# EAGLE library part F446RE (library F446RE)
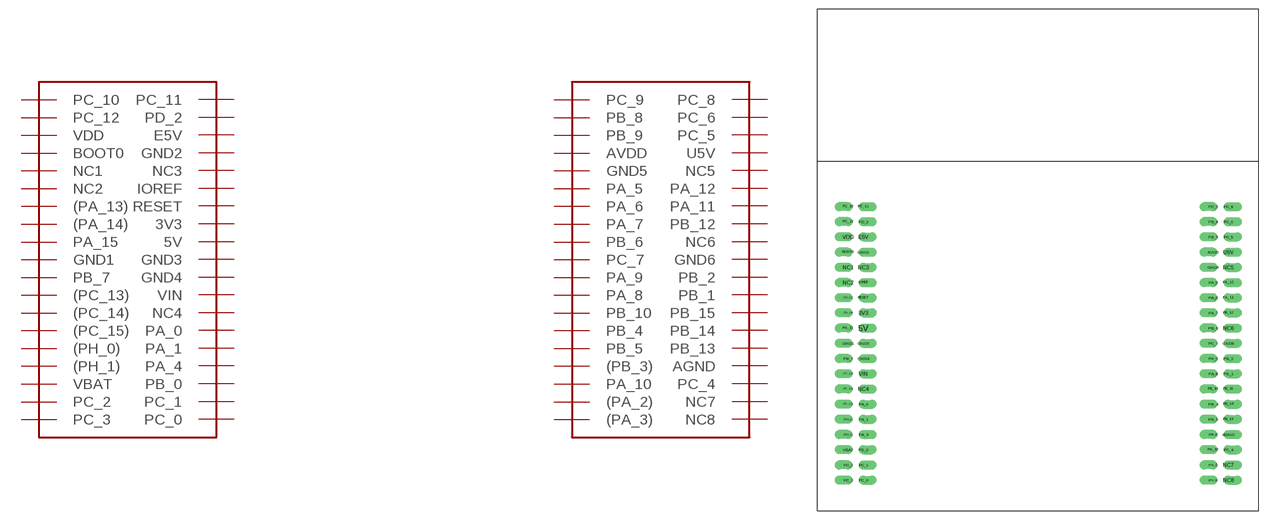
[diagram p0: symbol with the pads of F446RE; footprint F446RE]

Designator prefix U

## F446RE  [F446RE]
3V3  3V3
5V  5V
(PA_2)  (PA_2)
(PA_3)  (PA_3)
(PA_13)  (PA_13)
(PA_14)  (PA_14)
(PB_3)  (PB_3)
(PC_13)  (PC_13)
(PC_14)  (PC_14)
(PC_15)  (PC_15)
(PH_0)  (PH_0)
(PH_1)  (PH_1)
AGND  AGND
AVDD  AVDD
BOOT0  BOOT0
E5V  E5V
GND1  GND1
GND2  GND2
GND3  GND3
GND4  GND4
GND5  GND5
GND6  GND6
IOREF  IOREF
NC1  NC1
NC2  NC2
NC3  NC3
NC4  NC4
NC5  NC5
NC6  NC6
NC7  NC7
NC8  NC8
PA_0  PA_0
PA_1  PA_1
PA_4  PA_4
PA_5  PA_5
PA_6  PA_6
PA_7  PA_7
PA_8  PA_8
PA_9  PA_9
PA_10  PA_10
PA_11  PA_11
PA_12  PA_12
PA_15  PA_15
PB_0  PB_0
PB_1  PB_1
PB_2  PB_2
PB_4  PB_4
PB_5  PB_5
PB_6  PB_6
PB_7  PB_7
PB_8  PB_8
PB_9  PB_9
PB_10  PB_10
PB_12  PB_12
PB_13  PB_13
PB_14  PB_14
PB_15  PB_15
PC_0  PC_0
PC_1  PC_1
PC_2  PC_2
PC_3  PC_3
PC_4  PC_4
PC_5  PC_5
PC_6  PC_6
PC_7  PC_7
PC_8  PC_8
PC_9  PC_9
PC_10  PC_10
PC_11  PC_11
PC_12  PC_12
PD_2  PD_2
RESET  RESET
U5V  U5V
VBAT  VBAT
VDD  VDD
VIN  VIN

## Footprint F446RE (pad centres in mm)
drill 1 offset: 3V3 2.54,27.94; 5V 2.54,25.4; (PA_2) 60.96,2.54; (PA_3) 60.96,0; (PA_13) 0,30.48; (PA_14) 0,27.94; (PB_3) 60.96,7.62; (PC_13) 0,17.78; (PC_14) 0,15.24; (PC_15) 0,12.7; (PH_0) 0,10.16; (PH_1) 0,7.62; AGND 63.5,7.62; AVDD 60.96,38.1; BOOT0 0,38.1; E5V 2.54,40.64; GND1 0,22.86; GND2 2.54,38.1; GND3 2.54,22.86; GND4 2.54,20.32; GND5 60.96,35.56; GND6 63.5,22.86; IOREF 2.54,33.02; NC1 0,35.56; NC2 0,33.02; NC3 2.54,35.56; NC4 2.54,15.24; NC5 63.5,35.56; NC6 63.5,25.4; NC7 63.5,2.54; NC8 63.5,0; PA_0 2.54,12.7; PA_1 2.54,10.16; PA_4 2.54,7.62; PA_5 60.96,33.02; PA_6 60.96,30.48; PA_7 60.96,27.94; PA_8 60.96,17.78; PA_9 60.96,20.32; PA_10 60.96,5.08; PA_11 63.5,30.48; PA_12 63.5,33.02; PA_15 0,25.4; PB_0 2.54,5.08; PB_1 63.5,17.78; PB_2 63.5,20.32; PB_4 60.96,12.7; PB_5 60.96,10.16; PB_6 60.96,25.4; PB_7 0,20.32; PB_8 60.96,43.18; PB_9 60.96,40.64; PB_10 60.96,15.24; PB_12 63.5,27.94; PB_13 63.5,10.16; PB_14 63.5,12.7; PB_15 63.5,15.24; PC_0 2.54,0; PC_1 2.54,2.54; PC_2 0,2.54; PC_3 0,0; PC_4 63.5,5.08; PC_5 63.5,40.64; PC_6 63.5,43.18; PC_7 60.96,22.86; PC_8 63.5,45.72; PC_9 60.96,45.72; PC_10 0,45.72; PC_11 2.54,45.72; PC_12 0,43.18; PD_2 2.54,43.18; RESET 2.54,30.48; U5V 63.5,38.1; VBAT 0,5.08; VDD 0,40.64; VIN 2.54,17.78